# Altium footprint library PDS1040L-13.PcbLib: 1 footprints
Each footprint in its own frame and in the unit in brackets; x right, y up, seen from the top. Pads: shape width x height; smd on the part's side, far side on the other; paste and mask are expansions set on the pad; w line width, h text height; cw(c..) or ccw(c..) is an arc to the next point about the centre after c.
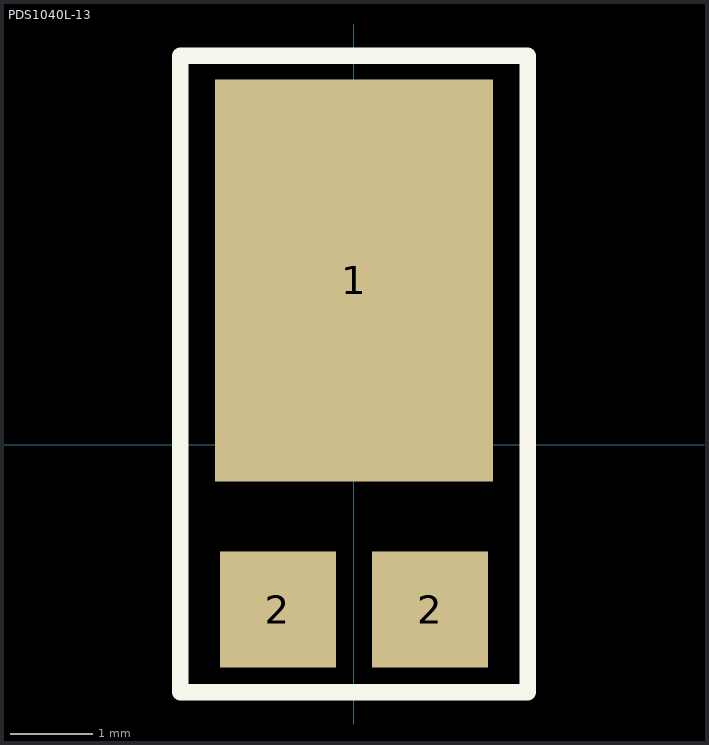
[diagram p0: the footprint, top view; thin cyan lines are the x and y axes]

## PDS1040L-13 [mm]
height 1.1
pads (3):
  rect 3.36x4.86 smd: 1(0,1.991)
  rect 1.4x1.4 smd: 2(-0.92,-1.991) 2(0.92,-1.991)
Top Overlay:
  lines w0.2: -2.1,-2.991 -2.1,4.709 2.1,4.709 2.1,-2.991 -2.1,-2.991
Top Assembly:
  lines w0.1: -2.1,-2.991 2.1,-2.991 2.1,4.709 -2.1,4.709 -2.1,-2.991
  text "'.Designator'" at 0,0 h0.7
3D body "PDS1040L-13.stp": height 1.05, standoff 0, extent -1.95,-2.391 1.95,4.009